# Altium integrated library REG_TENSAO.IntLib: 1 symbol
Pins are listed as number, name and electrical type; pins without a type are passive.

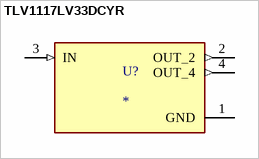
[diagram p0: symbol TLV1117LV33DCYR]

## TLV1117LV33DCYR
designator U?
1-A, low-dropout voltage regulator; MF: Texas Instruments; MP: TLV1117LV33DCYR; SnapEDA_Link: https://www.snapeda.com/parts/TLV1117LV33DCYR/Texas+Instruments/view-part/?ref=snap; Package: SOT-223-4 Texas Instruments; Value: *; Check_prices: https://www.snapeda.com/parts/TLV1117LV33DCYR/Texas+Instruments/view-part/?ref=eda
footprint VREG_TLV1117LV33DCYR
pins: 1 GND (power), 2 OUT_2 (out), 3 IN (in), 4 OUT_4 (out)